# Altium schematic symbol library Schlib1.SchLib: 2 symbols
Pins are listed as number, name and electrical type; pins without a type are passive.

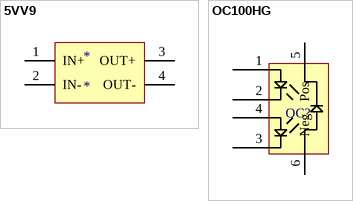
[diagram p0: symbols 5VV9 to OC100HG]

## 5VV9
designator *
footprint 5VV9
pins: 1 IN+, 2 IN-, 3 OUT+, 4 OUT-

## OC100HG
designator OC?  (value not drawn)
footprint OC100G
pins: 1 LED_1+, 2 LED_1-, 3 LED_2-, 4 LED_2+, 5 Pos, 6 Neg